# Altium schematic symbol library Microchip_LDO.SchLib: 1 symbol
Pins are listed as number, name and electrical type; pins without a type are passive.

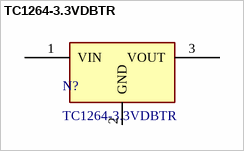
[diagram p0: symbol TC1264-3.3VDBTR]

## TC1264-3.3VDBTR
designator N?
Linear Voltage Regulator IC Positive Fixed 1 Output 800mA SOT-223-3; Supplier 1: Digi-Key; Supplier Part Number 1: TC1264-3.3VDBCT-ND
pins: 1 VIN, 2 GND, 3 VOUT